# Altium schematic symbol library ISO1432B.SCHLIB: 1 symbol
Pins are listed as number, name and electrical type; pins without a type are passive.

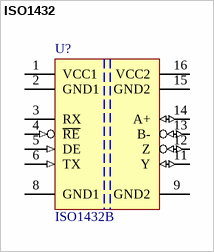
[diagram p0: symbol ISO1432]

## ISO1432
designator U?, comment ISO1432B
Isolated RS-485/RS-422 Transceiver; Назначение: Драйвер RS-485/232 с гальванической развязкой; Потребление, Вт: До 1 Вт в режиме передачи; Наименование: ISO1432B
footprint SOIC-16-WIDE (SOIC, 16-Leads, Body 10.3x7.5mm, Pitch 1.27mm, IPC Medium Density)
pins: 1 VCC1 (power), 2 GND1 (power), 3 RX (hiz), 4 ~{RE} (in), 5 DE (in), 6 TX (in), 8 GND1 (power), 9 GND2 (power), 11 Y (io), 12 Z (io), 13 B- (io), 14 A+ (io), 15 GND2 (power), 16 VCC2 (power)